# EAGLE library part M25P40-V (library pandaLight)
4MBit SPI NOR Flash
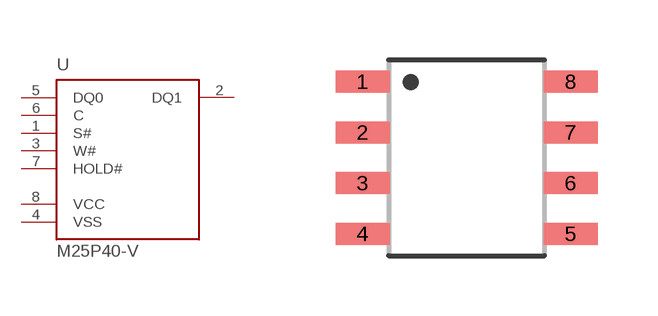
[diagram p15: symbol with the pads of SO8N; footprint SO8N]

Designator prefix U

## M25P40-VMN  [SO8N]
1  S#  in
2  DQ1  out
3  W#  in
4  VSS  pwr
5  DQ0  in
6  C  in
7  HOLD#  in
8  VCC  pwr

## Footprint SO8N (pad centres in mm)
smd 1.35 x 0.55: 1 -2.6,1.905; 2 -2.6,0.635; 3 -2.6,-0.635; 4 -2.6,-1.905; 5 2.6,-1.905; 6 2.6,-0.635; 7 2.6,0.635; 8 2.6,1.905